# EAGLE library part CONN_SD_MICRO_9P (library GPLIB_CONN)
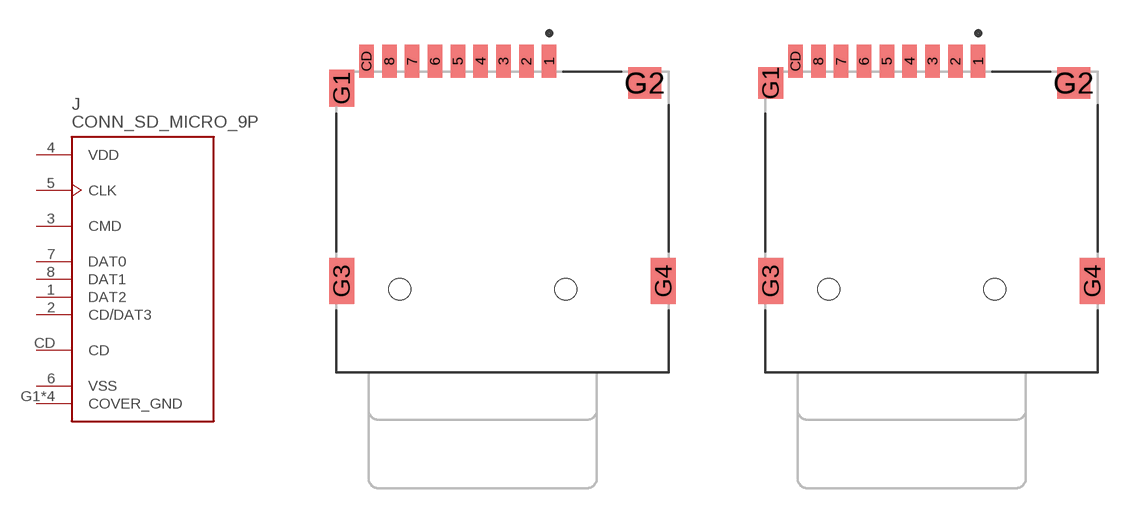
[diagram p67: symbol with the pads of CONN_SD_MICRO_9P_CUI_MSD-4-A; footprints CONN_SD_MICRO_9P_CUI_MSD-4-A, CONN_SD_MICRO_9P_TF-01A-ZYD9AH1.85]

Designator prefix J

## CONN_SD_MICRO_9P  [CONN_SD_MICRO_9P_CUI_MSD-4-A]
1  DAT2
2  CD/DAT3
3  CMD
4  VDD  pwr
5  CLK  in
6  VSS  pwr
7  DAT0
8  DAT1
CD  CD  pas
G1  COVER_GND  pwr
G2  COVER_GND  pwr
G3  COVER_GND  pwr
G4  COVER_GND  pwr

## CONN_SD_MICRO_9P_TF-01A-ZYD9AH1.85  [CONN_SD_MICRO_9P_TF-01A-ZYD9AH1.85]
Pads as for CONN_SD_MICRO_9P_CUI_MSD-4-A

## Footprint CONN_SD_MICRO_9P_CUI_MSD-4-A (pad centres in mm)
smd 0.7 x 1.6: 1 2.25,5.3; 2 1.15,5.3; 3 0.05,5.3; 4 -1.05,5.3; 5 -2.15,5.3; 6 -3.25,5.3; 7 -4.35,5.3; 8 -5.45,5.3; CD -6.55,5.3
smd 1.2 x 1.8: G1 -7.75,4
smd 1.6 x 1.5: G2 6.85,4.25
smd 1.2 x 2.2: G3 -7.75,-5.3; G4 7.75,-5.3
hole 1.05 at -4.95,-5.7
hole 1.05 at 3.05,-5.7

## Footprint CONN_SD_MICRO_9P_TF-01A-ZYD9AH1.85 (pad centres in mm)
smd 0.7 x 1.6: 1 2.25,5.3; 2 1.15,5.3; 3 0.05,5.3; 4 -1.05,5.3; 5 -2.15,5.3; 6 -3.25,5.3; 7 -4.35,5.3; 8 -5.45,5.3; CD -6.55,5.3
smd 1.2 x 1.5: G1 -7.75,4.25
smd 1.6 x 1.5: G2 6.85,4.25
smd 1.2 x 2.2: G3 -7.75,-5.3; G4 7.75,-5.3
hole 1.05 at -4.95,-5.7
hole 1.05 at 3.05,-5.7